# EAGLE library part 555140-2 (library con-amp)
AMP connector
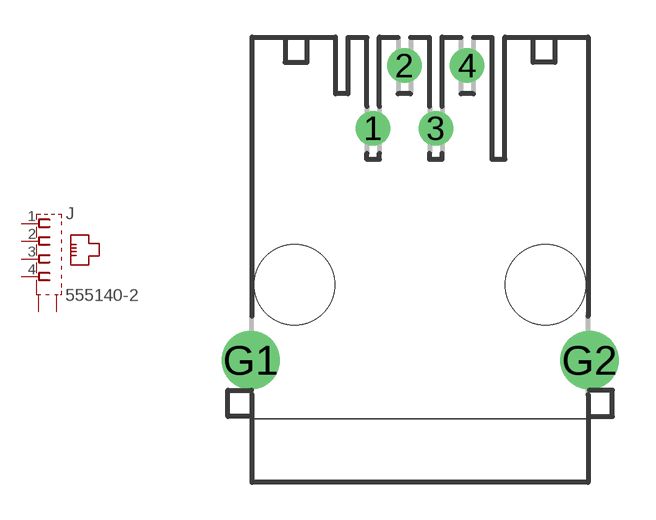
[diagram p75: symbol with the pads of 555140-2; footprint 555140-2]

Designator prefix J

## 555140-2  [555140-2]
1  1  pas
2  2  pas
3  3  pas
4  4  pas
G1  S1  pas
G2  S2  pas

## Footprint 555140-2 (pad centres in mm)
Modular Jack PC Board Ground
drill 0.889 round: 1 -1.905,6.35; 2 -0.635,8.89; 3 0.635,6.35; 4 1.905,8.89
drill 1.575 pad 2.184 round: G1 -6.858,-3.048; G2 6.858,-3.048
hole 3.251 at -5.08,0
hole 3.251 at 5.08,0